# Altium footprint library con-fischer.PcbLib: 4 footprints
Each footprint in its own frame and in the unit in brackets; x right, y up, seen from the top. Pads: shape width x height; smd on the part's side, far side on the other; paste and mask are expansions set on the pad; w line width, h text height; cw(c..) or ccw(c..) is an arc to the next point about the centre after c.
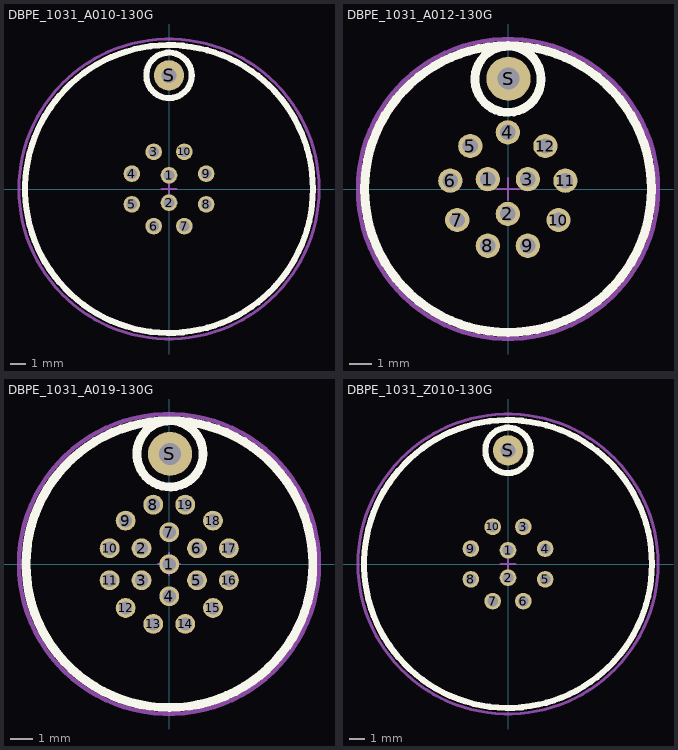
[diagram p0: the footprints below, top view; thin cyan lines are the x and y axes]

## DBPE_1031_A010-130G [mm] "Fischer CORE Multipole Female"
height 13.2
pads (11):
  round 1.1 hole 0.7: 1(0,0.9) 2(0,-0.9) 3(-1.014,2.448) 4(-2.448,1.014) 5(-2.448,-1.014) 6(-1.014,-2.448) 7(1.014,-2.448) 8(2.448,-1.014) 9(2.448,1.014) 10(1.014,2.448)
  round 2 hole 1: S(0,7.5)
Top Overlay:
  circle w0.4: c0,7.5 r1.5
  circle w0.4: c0,0 r9.5
Top Assembly (Mech3):
  circle w0.2: c0,7.5 r0.5
  circle w0.2: c0,0 r9.505
Top Courtyard:
  circle w0.2: c0,0 r9.9
  lines w0.1: -0.5,0 0.5,0 ; 0,-0.5 0,0.5
3D body "fc_dbple_1031_a010-130g.stp": height 20, standoff -2.7, extent -9.45,-9.45 9.45,9.45

## DBPE_1031_A012-130G [mm] "Fischer CORE Multipole Female"
height 13.2
pads (13):
  round 1.1 hole 0.7: 1(-0.916,0.444) 2(-0.006,-1.131) 3(0.903,0.444) 4(-0.006,2.569) 5(-1.71,1.949) 6(-2.616,0.379) 7(-2.301,-1.406) 8(-0.913,-2.572) 9(0.9,-2.572) 10(2.289,-1.406) 11(2.603,0.379) 12(1.697,1.949)
  round 2 hole 1: S(0.025,5)
Top Overlay:
  circle w0.4: c0,4.975 r1.5
  circle w0.4: c0,0 r6.5
Top Assembly (Mech3):
  circle w0.2: c0,5 r0.608
  circle w0.2: c0,0 r6.5
Top Courtyard:
  circle w0.2: c0,0 r6.8
  lines w0.1: -0.5,0 0.5,0 ; 0,-0.5 0,0.5
3D body "SW3DPS-Fischer_DBPE_1031_A012-130.STEP": height 20.2, standoff -2.53, extent -9.408,-9.5 9.4,9.3

## DBPE_1031_A019-130G [mm] "Fischer CORE Multipole Female"
height 13.2
pads (20):
  round 0.9 hole 0.6: 1(0.012,-0.013) 2(-1.243,0.712) 3(-1.243,-0.738) 4(0.012,-1.463) 5(1.268,-0.738) 6(1.268,0.712) 7(0.012,1.437) 8(-0.712,2.69) 9(-1.966,1.966) 10(-2.69,0.711) 11(-2.69,-0.737) 12(-1.966,-1.991) 13(-0.712,-2.715) 14(0.736,-2.715) 15(1.991,-1.991) 16(2.715,-0.737) 17(2.715,0.711) 18(1.991,1.966) 19(0.736,2.69)
  round 2 hole 1: S(0.044,4.994)
Top Overlay:
  circle w0.4: c0.044,4.994 r1.5
  circle w0.4: c0.019,-0.006 r6.5
Top Assembly (Mech3):
  circle w0.2: c0,5 r0.608
  circle w0.2: c0,0 r6.5
Top Courtyard:
  circle w0.2: c0,0 r6.8
  lines w0.1: -0.5,0 0.5,0 ; 0,-0.5 0,0.5
3D body "SW3DPS-Fischer_DBPE_1031_A019-130G.STEP": height 20.19, standoff -2.53, extent -9.389,-9.406 9.419,9.394

## DBPE_1031_Z010-130G [mm] "Fischer CORE Multipole Female"
height 13.2
pads (11):
  round 1.1 hole 0.7: 1(0,0.9) 2(0,-0.9) 3(1.014,2.448) 4(2.448,1.014) 5(2.448,-1.014) 6(1.014,-2.448) 7(-1.014,-2.448) 8(-2.448,-1.014) 9(-2.448,1.014) 10(-1.014,2.448)
  round 2 hole 1: S(0,7.5)
Top Overlay:
  circle w0.4: c0,7.5 r1.5
  circle w0.4: c0,0 r9.5
Top Assembly (Mech3):
  circle w0.2: c0,0 r9.505
  circle w0.2: c0,7.5 r0.5
Top Courtyard:
  circle w0.2: c0,0 r9.9
  lines w0.1: -0.5,0 0.5,0 ; 0,-0.5 0,0.5
3D body "fc_dbple_1031_a010-130g.stp": height 20, standoff -2.7, extent -9.45,-9.45 9.45,9.45